# Altium schematic symbol library clusterlib.SchLib: 8 symbols
Pins are listed as number, name and electrical type; pins without a type are passive.

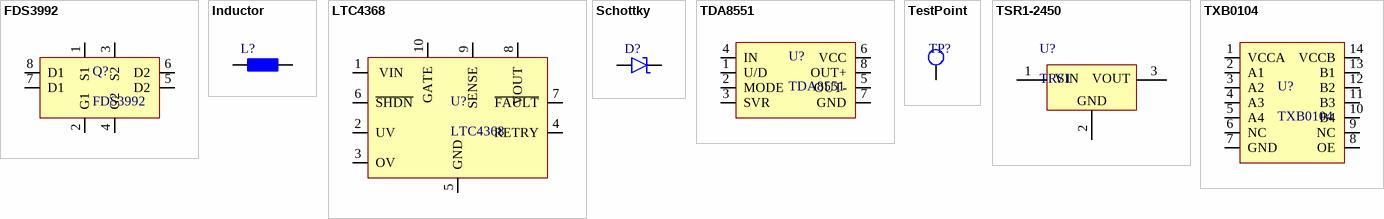
[diagram p0: symbols FDS3992 to TXB0104]

## FDS3992
designator Q?
FDS3992 Dual N-Channel MOSFET
footprint SOIC-8 (Small Outline Integrated Circuit 8pin Package)
pins: 1 S1, 2 G1, 3 S2, 4 G2, 5 D2, 6 D2, 7 D1, 8 D1

## Inductor
designator L?, comment Ind  (value not drawn)
pins: 1, 2

## LTC4368
designator U?
LTC4368 UV/OV/Reverse Protection IC
footprint MSOP-10 (Mini Small-Outline Package 10pin)
pins: 1  VIN, 2 UV, 3 OV, 4 RETRY, 5 GND, 6 ~{SHDN}, 7 ~{FAULT}, 8 VOUT, 9 SENSE, 10 GATE

## Schottky
designator D?  (value not drawn)
pins: 1 A, 2 K

## TDA8551
designator U?
TDA8551 1W Audio Amplifier
footprint SOIC-8 (Small Outline Integrated Circuit 8pin Package)
pins: 1 U/D, 2 MODE, 3 SVR, 4 IN, 5 OUT-, 6 VCC, 7 GND, 8 OUT+

## TestPoint
designator TP?  (value not drawn)
footprint MEASUREMENT_POINT (SMD measurement point)
pins: 1

## TSR1-2450
designator U?, comment TRS1
TSR1-2450 DC/DC Step-Down Converter
footprint TSR1-2450 (TSR1-2450 Footprint (Drop in for TO220))
pins: 1 +VIN, 2 GND, 3 +VOUT
text: VIN; VOUT

## TXB0104
designator U?
TXB0104 4bit Bidirectional Voltage-Level Translator
footprint SOIC-14 (Small Outline Integrated Circuit 14pin Package)
pins: 1 VCCA, 2 A1, 3 A2, 4 A3, 5 A4, 6 NC, 7 GND, 8 OE, 9 NC, 10 B4, 11 B3, 12 B2, 13 B1, 14 VCCB